# Altium integrated library Analog Devices Data Converters Analog-to-Digital Converters.IntLib: 2404 symbols (part 4 of 346)
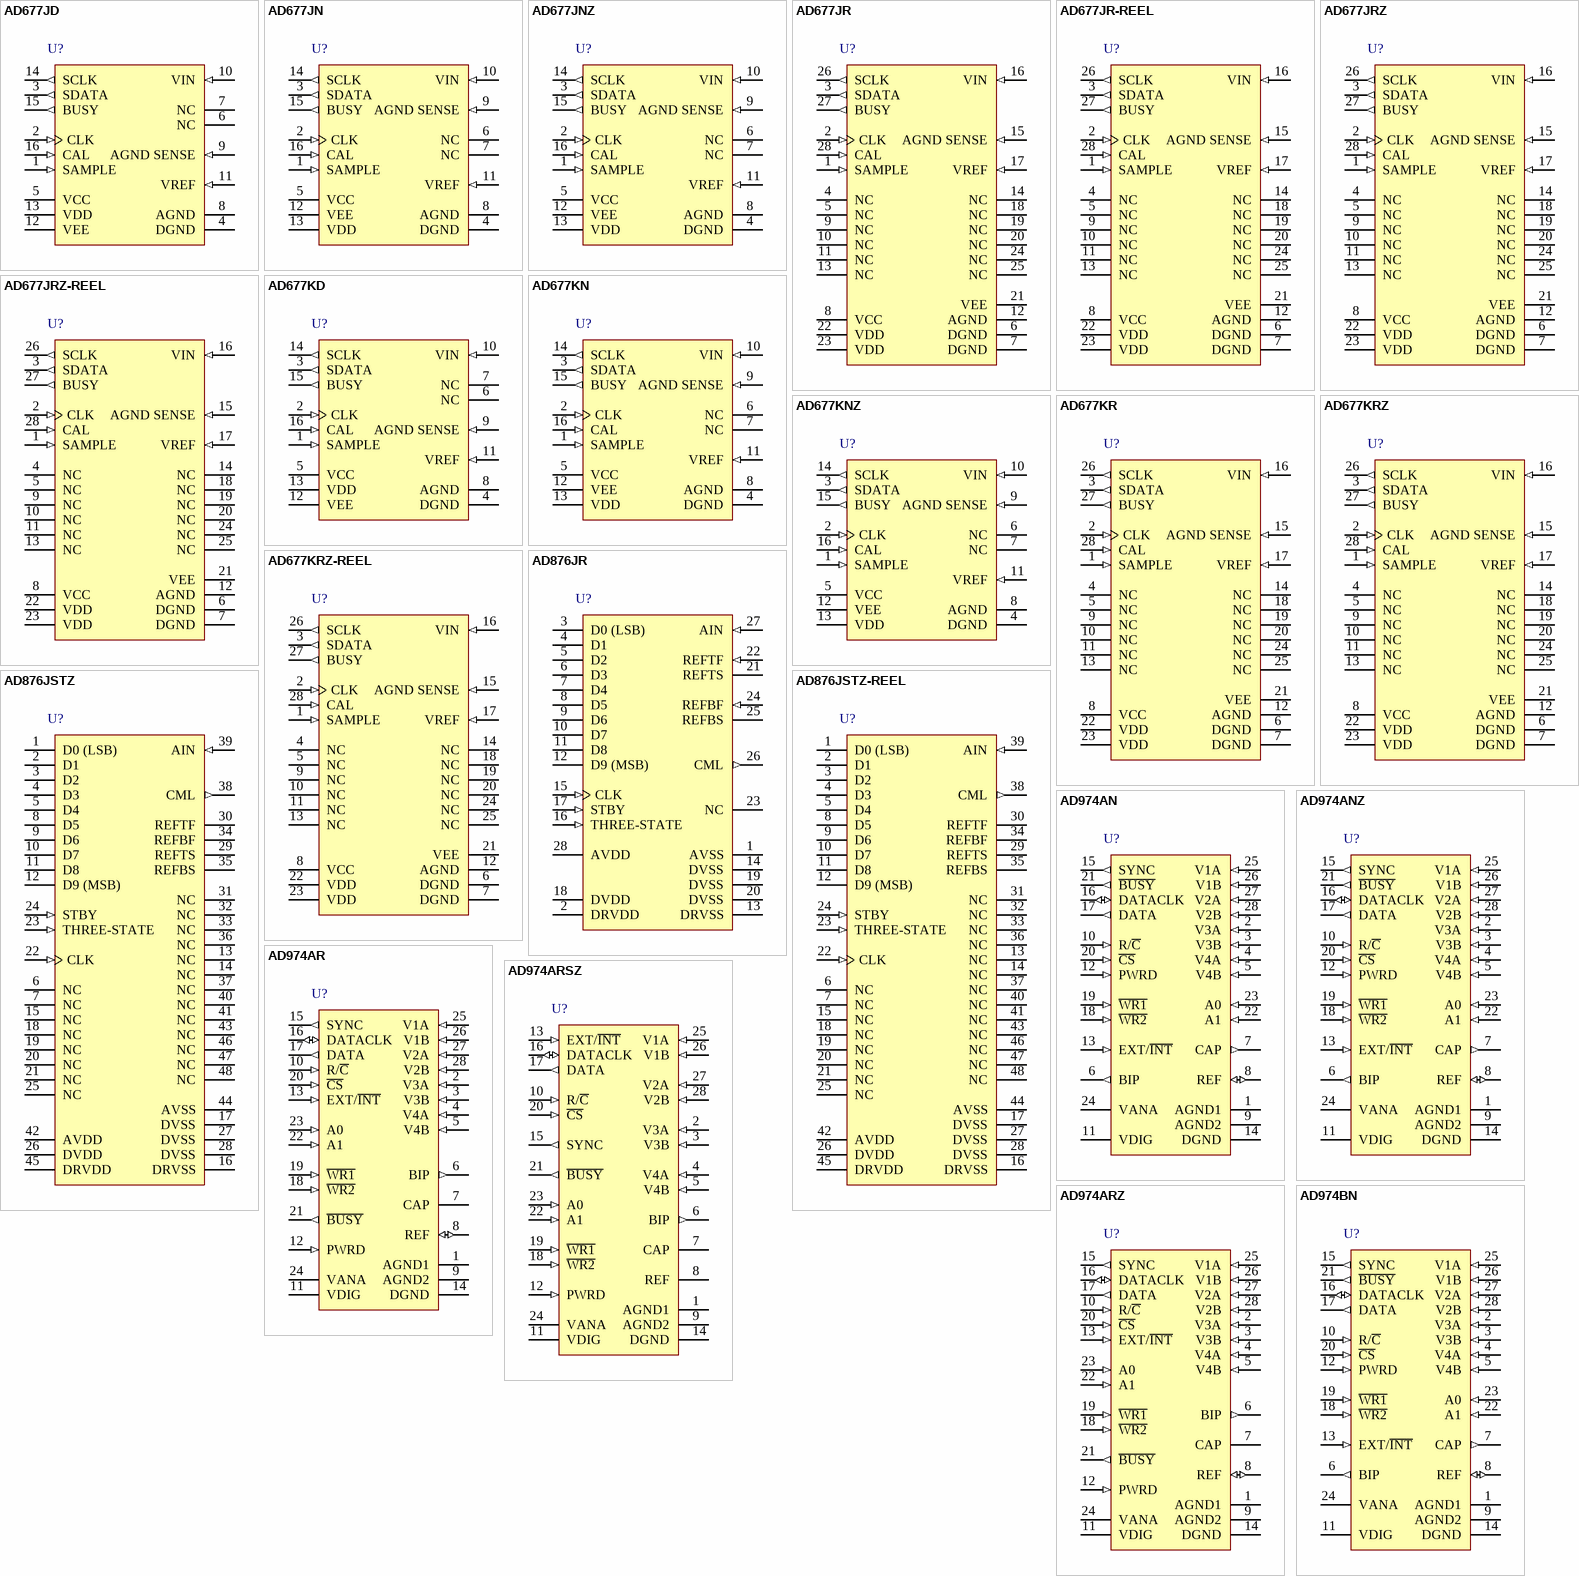
[diagram p257: symbols AD677JD to AD974BN]

## AD974ARZ
designator U?
4 Channel, 16-Bit, 200 ksps Data Acquisition System, 200KSPS, -40 to +85 degC, RW-28, Pb-Free, Tube; Generic Part Number: AD974; Manufacturer: Analog Devices; PartNumber: AD974ARZ; Resolution (Bits): 16; Channels: 4; Throughput Rate (SPS): 200K; Interface: Ser, SPI; DatasheetVersion: Rev.A; PackageVersion: 060706-A; PackageReference: RW-28; PackageDescription: 28-Lead Standard Small Outline Package [SOIC_W]; Supplier 1: Digi-Key; Supplier Part Number 1: AD974ARZ-ND; Supplier 2: Newark; Supplier Part Number 2: 59K7332; Supplier 3: Mouser; Supplier Part Number 3: 584-AD974ARZ; RoHS: Y; Packing: Tube; Mounting Technology: Surface Mount; Code_JEDEC: MS-013-AE; ComponentLink1Description: Manufacturer URL; ComponentLink1URL: http://www.analog.com/en/index.html; ComponentLink2Description: Datasheet; ComponentLink2URL: http://www.analog.com/static/imported-files/data_sheets/AD974.pdf; ComponentLink3Description: Package Specification; ComponentLink3URL: http://www.analog.com/static/imported-files/packages/35833120341221RW_28.pdf; ComponentLink4Description: Product URL; ComponentLink4URL: http://www.analog.com/en/analog-to-digital-converters/ad-converters/ad974/products/product.html
footprint RW-28_N (SOIC, 28-Leads, Body 17.9x7.5mm, Pitch 1.27mm, IPC Medium Density)
footprint RW-28_L (SOIC, 28-Leads, Body 17.9x7.5mm, Pitch 1.27mm, IPC High Density)
footprint RW-28_M (SOIC, 28-Leads, Body 17.9x7.5mm, Pitch 1.27mm, IPC Low Density)
pins: 1 AGND1 (power) "Analog Ground. Used as the ground reference point for the REF pin.", 2 V3A (in) "Analog Input.  Refer to Table I for input range configuration.", 3 V3B (in) "Analog Input.  Refer to Table I for input range configuration.", 4 V4A (in) "Analog Input.  Refer to Table I for input range configuration.", 5 V4B (in) "Analog Input.  Refer to Table I for input range configuration.", 6 BIP (out) "Bipolar Offset. Connect VxA inputs to provide Bipolar input range.", 7 CAP "Reference Buffer Output.  Connect a 2.2 µF tantalum capacitor between CAP and Analog Ground.", 8 REF (io) "Reference Input/Output. The internal +2.5 V reference is available at this pin. Alternatively an external reference can be used to override the internal reference.  In either case, connect a 2.2 µF tantalum capacitor between (See Datasheet)", 9 AGND2 (power) "Analog Ground.", 10 R/~{C} (in) "Read/C\o\n\v\e\r\t\ Input. Used to control the conversion and read modes. With C\S\ LOW, a falling edge on R/C\ holds the analog input signal internally and starts a conversion; a rising edge enables the transmission of the (See Datasheet)", 11 VDIG (power) "Digital Power Supply. Nominally +5 V.", 12 PWRD (in) "Power-Down Input. When set to a logic HIGH, power consumption is reduced and conversions are inhibited. The conversion result from the previous conversion is stored in the onboard shift register.", 13 EXT/~{INT} (in) "Digital select input for choosing the internal or an external data clock. With EXT/I\N\T\tied LOW, after initiating a conversion, 16 DATACLK pulses transmit the previous conversion result as shown in Figure 3. With (See Datasheet)", 14 DGND (power) "Digital Ground.", 15 SYNC (out) "Digital output frame synchronization for use with an external data clock (EXT/I\N\T\ = Logic HIGH). When a read sequence is initiated, a pulse one DATACLK period wide is output synchronous to the external data clock.", 16 DATACLK (io) "Serial data clock input or output, dependent upon the logic state of the EXT/I\N\T\ pin. When using the internal data clock (EXT/I\N\T\ = Logic LOW), a conversion start sequence will initiate transmission of 16 DATACLK (See Datasheet)", 17 DATA (out) "The serial data output is synchronized to DATACLK.  Conversion results are stored in an onchip register.  The AD974 provides the conversion result, MSB first, from its internal shift register.  When using the internal data (See Datasheet)", 18 ~{WR2} (in) "Multiplexer Write Inputs.  These inputs are internally ORed to generate the mux latch inputs. The latch is transparent when W\R\1\ and W\R\2\ are tied low.", 19 ~{WR1} (in) "Multiplexer Write Inputs.  These inputs are internally ORed to generate the mux latch inputs. The latch is transparent when W\R\1\ and W\R\2\ are tied low.", 20 ~{CS} (in) "Chip Select Input. With R/C\ LOW, a falling edge on C\S\ will initiate a conversion. With R/C\ HIGH, a falling edge on C\S\ will enable the serial data output sequence.", 21 ~{BUSY} (out) "Busy Output. Goes LOW when a conversion is started, and remains LOW until the conversion is completed and the data is latched into the on-chip shift register.", 22 A1 (in) "Address multiplexer inputs latched with the W\R\1\, W\R\2\ inputs.", 23 A0 (in) "Address multiplexer inputs latched with the W\R\1\, W\R\2\ inputs.", 24 VANA (power) "Analog Power Supply. Nominally +5 V.", 25 V1A (in) "Analog Input.  Refer to Table I for input range configuration.", 26 V1B (in) "Analog Input.  Refer to Table I for input range configuration.", 27 V2A (in) "Analog Input.  Refer to Table I for input range configuration.", 28 V2B (in) "Analog Input.  Refer to Table I for input range configuration."

## AD974BN
designator U?
4 Channel, 16-Bit, 200 ksps Data Acquisition System, 200KSPS, -40 to +85 degC, N-28-2, Tube; Generic Part Number: AD974; Manufacturer: Analog Devices; PartNumber: AD974BN; Resolution (Bits): 16; Channels: 4; Throughput Rate (SPS): 200K; Interface: Ser, SPI; DatasheetVersion: Rev.A; PackageVersion: 071006-A; PackageReference: N-28-2; PackageDescription: 28-Lead Plastic Dual In-Line Package [PDIP]; Supplier 1: Digi-Key; Supplier Part Number 1: AD974BN-ND; Supplier 2: Newark; Supplier Part Number 2: 94B1330; Supplier 3: Mouser; Supplier Part Number 3: 584-AD974BN; RoHS: N; Packing: Tube; Mounting Technology: Through-hole; Code_JEDEC: MS-011; ComponentLink1Description: Manufacturer URL; ComponentLink1URL: http://www.analog.com/en/index.html; ComponentLink2Description: Datasheet; ComponentLink2URL: http://www.analog.com/static/imported-files/data_sheets/AD974.pdf; ComponentLink3Description: Package Specification; ComponentLink3URL: http://www.analog.com/static/imported-files/packages/50849324123784N_28_2.pdf; ComponentLink4Description: Product URL; ComponentLink4URL: http://www.analog.com/en/analog-to-digital-converters/ad-converters/ad974/products/product.html
footprint N-28-2 (DIP, 28-Leads, Row Spacing 15.55mm, Pitch 2.54mm, Body 37.4x13.5mm)
pins: 1 AGND1 (power) "Analog Ground. Used as the ground reference point for the REF pin.", 2 V3A (in) "Analog Input.  Refer to Table I for input range configuration.", 3 V3B (in) "Analog Input.  Refer to Table I for input range configuration.", 4 V4A (in) "Analog Input.  Refer to Table I for input range configuration.", 5 V4B (in) "Analog Input.  Refer to Table I for input range configuration.", 6 BIP (out) "Bipolar Offset. Connect VxA inputs to provide Bipolar input range.", 7 CAP (out) "Reference Buffer Output.  Connect a 2.2 uF tantalum capacitor between CAP and Analog Ground.", 8 REF (io) "Reference Input/Output. The internal +2.5 V reference is available at this pin. Alternatively an external reference can be used to override the internal reference.  In either case, connect a 2.2 uF tantalum capacitor between (See Datasheet)", 9 AGND2 (power) "Analog Ground.", 10 R/~{C} (in) "Read/C\o\n\v\e\r\t\ Input. Used to control the conversion and read modes. With C\S\ LOW, a falling edge on R/C\ holds the analog input signal internally and starts a conversion; a rising edge enables the transmission of the (See Datasheet)", 11 VDIG (power) "Digital Power Supply. Nominally +5 V.", 12 PWRD (in) "Power-Down Input. When set to a logic HIGH, power consumption is reduced and conversions are inhibited. The conversion result from the previous conversion is stored in the onboard shift register.", 13 EXT/~{INT} (in) "Digital select input for choosing the internal or an external data clock. With EXT/I\N\T\tied LOW, after initiating a conversion, 16 DATACLK pulses transmit the previous conversion result as shown in Figure 3. With (See Datasheet)", 14 DGND (power) "Digital Ground.", 15 SYNC (out) "Digital output frame synchronization for use with an external data clock (EXT/I\N\T\ = Logic HIGH). When a read sequence is initiated, a pulse one DATACLK period wide is output synchronous to the external data clock.", 16 DATACLK (io) "Serial data clock input or output, dependent upon the logic state of the EXT/I\N\T\ pin. When using the internal data clock (EXT/I\N\T\ = Logic LOW), a conversion start sequence will initiate transmission of 16 DATACLK (See Datasheet)", 17 DATA (out) "The serial data output is synchronized to DATACLK.  Conversion results are stored in an onchip register.  The AD974 provides the conversion result, MSB first, from its internal shift register.  When using the internal data (See Datasheet)", 18 ~{WR2} (in) "Multiplexer Write Inputs.  These inputs are internally ORed to generate the mux latch inputs. The latch is transparent when W\R\1\ and W\R\2\ are tied low.", 19 ~{WR1} (in) "Multiplexer Write Inputs.  These inputs are internally ORed to generate the mux latch inputs. The latch is transparent when W\R\1\ and W\R\2\ are tied low.", 20 ~{CS} (in) "Chip Select Input. With R/C\ LOW, a falling edge on C\S\ will initiate a conversion. With R/C\ HIGH, a falling edge on C\S\ will enable the serial data output sequence.", 21 ~{BUSY} (out) "Busy Output. Goes LOW when a conversion is started, and remains LOW until the conversion is completed and the data is latched into the on-chip shift register.", 22 A1 (in) "Address multiplexer inputs latched with the W\R\1\, W\R\2\ inputs.", 23 A0 (in) "Address multiplexer inputs latched with the W\R\1\, W\R\2\ inputs.", 24 VANA (power) "Analog Power Supply. Nominally +5 V.", 25 V1A (in) "Analog Input.  Refer to Table I for input range configuration.", 26 V1B (in) "Analog Input.  Refer to Table I for input range configuration.", 27 V2A (in) "Analog Input.  Refer to Table I for input range configuration.", 28 V2B (in) "Analog Input.  Refer to Table I for input range configuration."

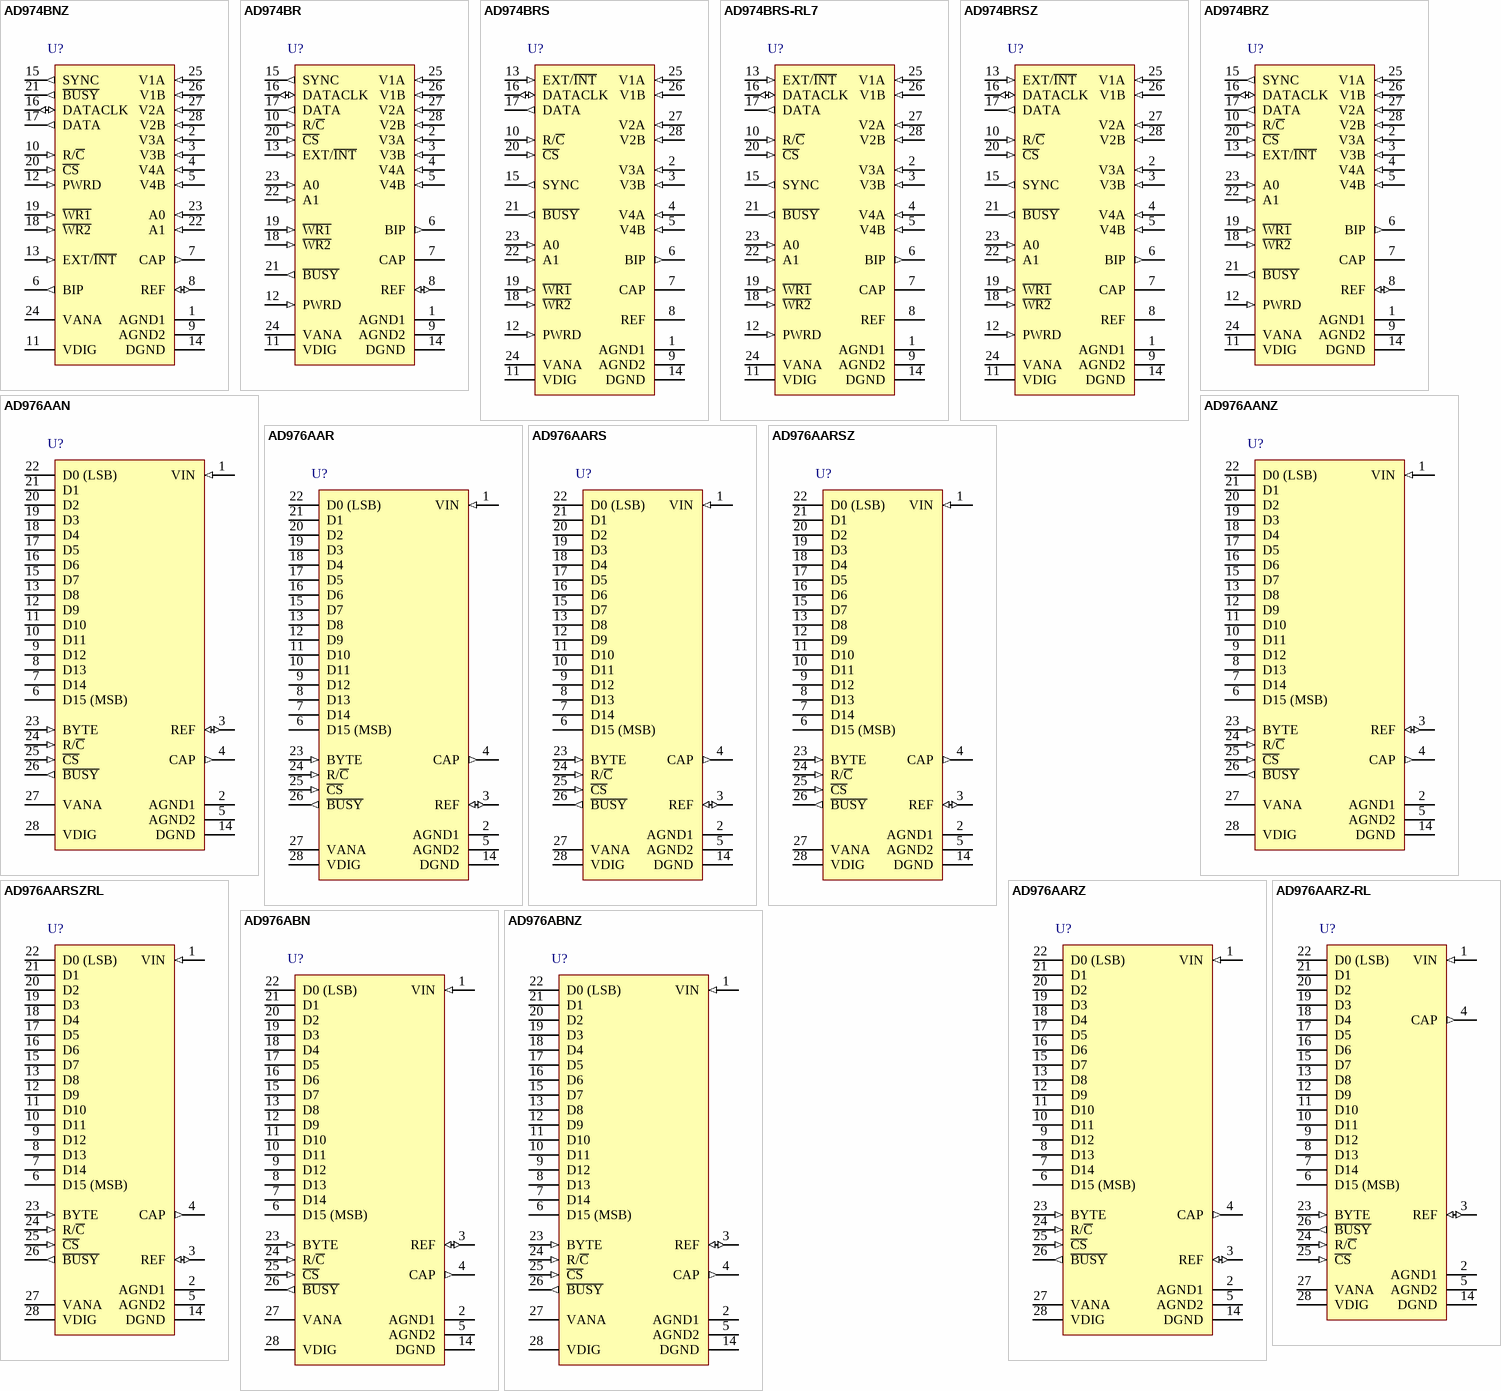
[diagram p2: symbols AD974BNZ to AD976ABNZ]

## AD974BNZ
designator U?
4 Channel, 16-Bit, 200 ksps Data Acquisition System, 200KSPS, -40 to +85 degC, N-28-2, Pb-Free, Tube; Generic Part Number: AD974; Manufacturer: Analog Devices; PartNumber: AD974BNZ; Resolution (Bits): 16; Channels: 4; Throughput Rate (SPS): 200K; Interface: Ser, SPI; DatasheetVersion: Rev.A; PackageVersion: 071006-A; PackageReference: N-28-2; PackageDescription: 28-Lead Plastic Dual In-Line Package [PDIP]; Supplier 1: Digi-Key; Supplier Part Number 1: AD974BNZ-ND; Supplier 2: Mouser; Supplier Part Number 2: 584-AD974BNZ; RoHS: Y; Packing: Tube; Mounting Technology: Through-hole; Code_JEDEC: MS-011; ComponentLink1Description: Manufacturer URL; ComponentLink1URL: http://www.analog.com/en/index.html; ComponentLink2Description: Datasheet; ComponentLink2URL: http://www.analog.com/static/imported-files/data_sheets/AD974.pdf; ComponentLink3Description: Package Specification; ComponentLink3URL: http://www.analog.com/static/imported-files/packages/50849324123784N_28_2.pdf; ComponentLink4Description: Product URL; ComponentLink4URL: http://www.analog.com/en/analog-to-digital-converters/ad-converters/ad974/products/product.html
footprint N-28-2 (DIP, 28-Leads, Row Spacing 15.55mm, Pitch 2.54mm, Body 37.4x13.5mm)
pins: 1 AGND1 (power) "Analog Ground. Used as the ground reference point for the REF pin.", 2 V3A (in) "Analog Input.  Refer to Table I for input range configuration.", 3 V3B (in) "Analog Input.  Refer to Table I for input range configuration.", 4 V4A (in) "Analog Input.  Refer to Table I for input range configuration.", 5 V4B (in) "Analog Input.  Refer to Table I for input range configuration.", 6 BIP (out) "Bipolar Offset. Connect VxA inputs to provide Bipolar input range.", 7 CAP (out) "Reference Buffer Output.  Connect a 2.2 uF tantalum capacitor between CAP and Analog Ground.", 8 REF (io) "Reference Input/Output. The internal +2.5 V reference is available at this pin. Alternatively an external reference can be used to override the internal reference.  In either case, connect a 2.2 uF tantalum capacitor between (See Datasheet)", 9 AGND2 (power) "Analog Ground.", 10 R/~{C} (in) "Read/C\o\n\v\e\r\t\ Input. Used to control the conversion and read modes. With C\S\ LOW, a falling edge on R/C\ holds the analog input signal internally and starts a conversion; a rising edge enables the transmission of the (See Datasheet)", 11 VDIG (power) "Digital Power Supply. Nominally +5 V.", 12 PWRD (in) "Power-Down Input. When set to a logic HIGH, power consumption is reduced and conversions are inhibited. The conversion result from the previous conversion is stored in the onboard shift register.", 13 EXT/~{INT} (in) "Digital select input for choosing the internal or an external data clock. With EXT/I\N\T\tied LOW, after initiating a conversion, 16 DATACLK pulses transmit the previous conversion result as shown in Figure 3. With (See Datasheet)", 14 DGND (power) "Digital Ground.", 15 SYNC (out) "Digital output frame synchronization for use with an external data clock (EXT/I\N\T\ = Logic HIGH). When a read sequence is initiated, a pulse one DATACLK period wide is output synchronous to the external data clock.", 16 DATACLK (io) "Serial data clock input or output, dependent upon the logic state of the EXT/I\N\T\ pin. When using the internal data clock (EXT/I\N\T\ = Logic LOW), a conversion start sequence will initiate transmission of 16 DATACLK (See Datasheet)", 17 DATA (out) "The serial data output is synchronized to DATACLK.  Conversion results are stored in an onchip register.  The AD974 provides the conversion result, MSB first, from its internal shift register.  When using the internal data (See Datasheet)", 18 ~{WR2} (in) "Multiplexer Write Inputs.  These inputs are internally ORed to generate the mux latch inputs. The latch is transparent when W\R\1\ and W\R\2\ are tied low.", 19 ~{WR1} (in) "Multiplexer Write Inputs.  These inputs are internally ORed to generate the mux latch inputs. The latch is transparent when W\R\1\ and W\R\2\ are tied low.", 20 ~{CS} (in) "Chip Select Input. With R/C\ LOW, a falling edge on C\S\ will initiate a conversion. With R/C\ HIGH, a falling edge on C\S\ will enable the serial data output sequence.", 21 ~{BUSY} (out) "Busy Output. Goes LOW when a conversion is started, and remains LOW until the conversion is completed and the data is latched into the on-chip shift register.", 22 A1 (in) "Address multiplexer inputs latched with the W\R\1\, W\R\2\ inputs.", 23 A0 (in) "Address multiplexer inputs latched with the W\R\1\, W\R\2\ inputs.", 24 VANA (power) "Analog Power Supply. Nominally +5 V.", 25 V1A (in) "Analog Input.  Refer to Table I for input range configuration.", 26 V1B (in) "Analog Input.  Refer to Table I for input range configuration.", 27 V2A (in) "Analog Input.  Refer to Table I for input range configuration.", 28 V2B (in) "Analog Input.  Refer to Table I for input range configuration."